# EAGLE library part MCP2515 (library Microchip)
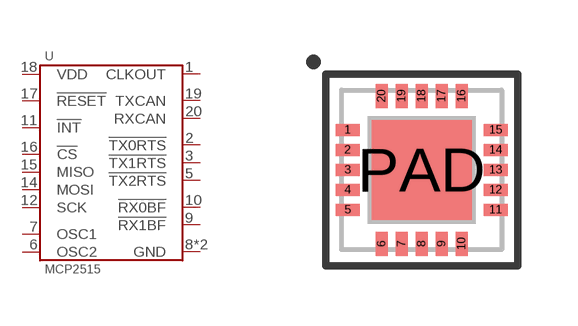
[diagram p20: symbol with the pads of VQFN-20-4MM; footprint VQFN-20-4MM]

Designator prefix U

## MCP2515T-I/ML  [VQFN-20-4MM]
1  CLKOUT
2  !TX0RTS
3  !TX1RTS
5  !TX2RTS
6  OSC2
7  OSC1
8  GND
9  !RX1BF
10  !RX0BF
11  !INT
12  SCK
14  MOSI
15  MISO
16  !CS
17  !RESET
18  VDD
19  TXCAN
20  RXCAN
PAD  GND

## Footprint VQFN-20-4MM (pad centres in mm)
smd 0.6 x 0.3: 1 -1.85,1; 2 -1.85,0.5; 3 -1.85,0; 4 -1.85,-0.5; 5 -1.85,-1; 11 1.85,-1; 12 1.85,-0.5; 13 1.85,0; 14 1.85,0.5; 15 1.85,1
smd 0.3 x 0.6: 6 -1,-1.85; 7 -0.5,-1.85; 8 0,-1.85; 9 0.5,-1.85; 10 1,-1.85; 16 1,1.85; 17 0.5,1.85; 18 0,1.85; 19 -0.5,1.85; 20 -1,1.85
smd 2.5 x 2.5: PAD 0,0